# Altium footprint library 遥控器控制板.PcbLib: 2 footprints
Each footprint in its own frame and in the unit in brackets; x right, y up, seen from the top. Pads: shape width x height; smd on the part's side, far side on the other; paste and mask are expansions set on the pad; w line width, h text height; cw(c..) or ccw(c..) is an arc to the next point about the centre after c.
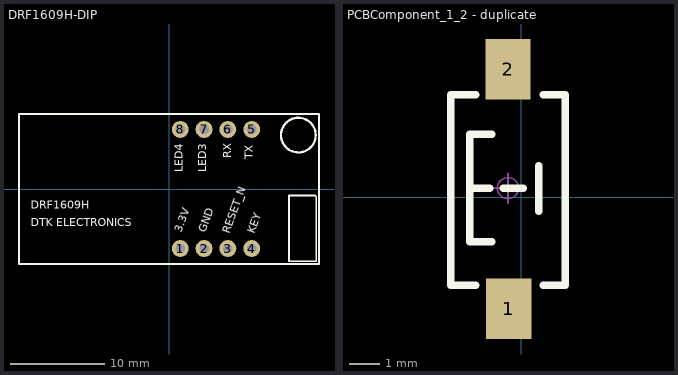
[diagram p0: the footprints below, top view; thin cyan lines are the x and y axes]

## DRF1609H-DIP [mm]
height 3
pads (8):
  round 1.8 hole 1: 1(1.2,-6.35) 2(3.74,-6.35) 3(6.28,-6.35) 4(8.82,-6.35) 5(8.82,6.35) 6(6.28,6.35) 7(3.74,6.35) 8(1.2,6.35)
Top Overlay:
  circle w0.25: c13.799,5.75 r1.851
  lines w0.2: -0.25,8 -7.65,8 -12.75,8 -16,8 -16,-8 -2.7,-8 0.175,-8 10.325,-8 ; -0.2,8 10.25,8 16,8 16,-8 10.25,-8 ; 12.8,-0.8 12.8,-7.7 15.7,-7.7 15.7,-0.8 ; 12.8,-0.7 15.6,-0.7
  text "DTK ELECTRONICS" at -14.732,-4.318 h1.5
  text "DRF1609H" at -14.732,-2.413 h1.5
  text "3.3V" at 1.651,-4.826 h1.5
  text "GND" at 4.191,-4.826 h1.5
  text "RESET_N" at 6.731,-4.953 h1.5
  text "KEY" at 9.398,-4.953 h1.5
  text "TX" at 9.271,3.175 h1.5
  text "RX" at 6.985,3.302 h1.5
  text "LED3" at 4.318,1.778 h1.5
  text "LED4" at 1.778,1.778 h1.5

## PCBComponent_1_2 - duplicate [mm]
pads (2):
  rect 1.5x2 smd: 1(-0.412,-3.691) 2(-0.432,4.242)
Top Overlay:
  lines w0.254: -1.702,0.305 -1.041,0.305 ; -1.499,-2.907 -2.332,-2.907 -2.332,3.393 -1.499,3.393 ; -0.965,-1.473 -1.702,-1.473 -1.702,2.083 -0.965,2.083 ; -0.584,0.305 0.076,0.305 ; 0.584,-0.457 0.584,1.041 ; 0.737,-2.907 1.468,-2.907 1.468,3.393 0.737,3.393
Mechanical 15:
  circle w0.05: c-0.432,0.305 r0.35
  lines w0.05: -0.932,0.305 0.068,0.305 ; -0.432,-0.195 -0.432,0.805
3D body "TSW SMD-3x6x2.5.STEP": height 2.59, standoff -0.03, extent -2.055,-3.695 1.445,4.305